# EAGLE library part USBMICRO (library general)
10104110-0001LF von Farnell: 2293753
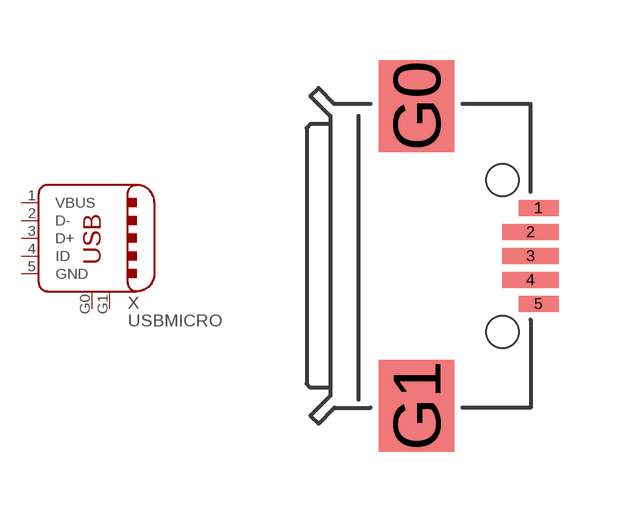
[diagram p4: symbol with the pads of MICROUSB_10104110; footprint MICROUSB_10104110]

Designator prefix X

## USBMICRO  [MICROUSB_10104110]
1  VBUS
2  D-
3  D+
4  ID
5  GND
G0  G1
G1  G2

## Footprint MICROUSB_10104110 (pad centres in mm)
smd 1 x 0.4: 1 0.2,1.2; 5 0.2,-1.2
smd 1.4 x 0.4: 2 0,0.6; 3 0,0; 4 0,-0.6
smd 1.9 x 2.3: G0 -2.85,3.75; G1 -2.85,-3.75
hole 0.8 at -0.7,1.9
hole 0.8 at -0.7,-1.9